# Altium schematic symbol library TMK212BJ105KG-T.SchLib: 2 symbols
Pins are listed as number, name and electrical type; pins without a type are passive.

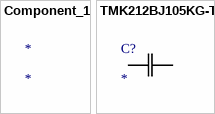
[diagram p0: symbols Component_1 to TMK212BJ105KG-T]

## Component_1
designator *

## TMK212BJ105KG-T
designator C?
No Description Available; Mfr_Name: Taiyo Yuden
footprint CAP_TMK212BJ105KG-T_TAY
pins: 1, 2